# Altium footprint library PCB - POWER INDUCTORS - TDK SPM3020-LR.PCBLIB: 1 footprints
Each footprint in its own frame and in the unit in brackets; x right, y up, seen from the top. Pads: shape width x height; smd on the part's side, far side on the other; paste and mask are expansions set on the pad; w line width, h text height; cw(c..) or ccw(c..) is an arc to the next point about the centre after c.
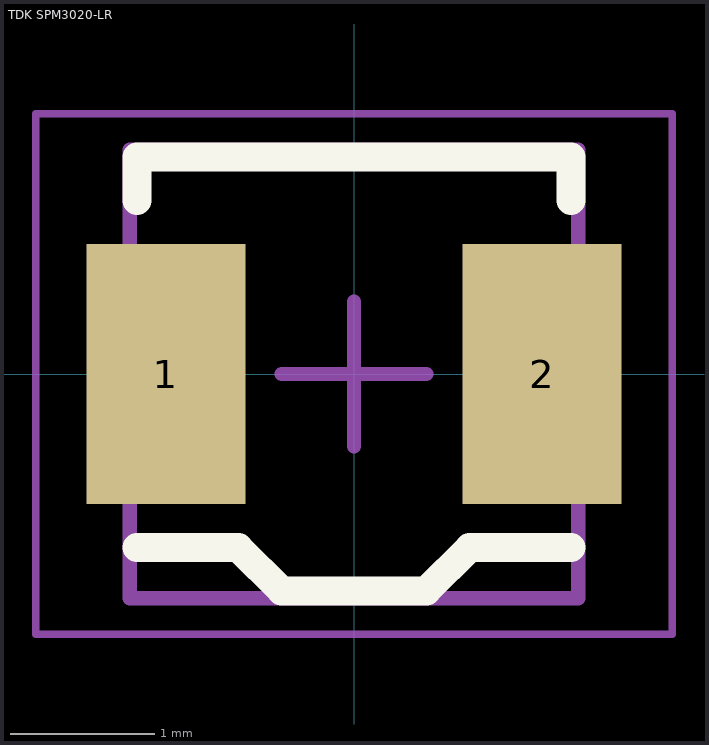
[diagram p0: the footprint, top view; thin cyan lines are the x and y axes]

## TDK SPM3020-LR [mm] "Inductor, 2-Leads, Body 3.00x3.00mm, IPC Medium Density"
height 2
pads (2):
  rect 1.1x1.8 smd: 1(-1.3,0) 2(1.3,0)
Top Overlay:
  lines w0.2: -1.5,-1.2 -0.8,-1.2 -0.5,-1.5 0,-1.5 0.5,-1.5 0.8,-1.2 1.5,-1.2 ; -1.5,1.2 -1.5,1.5 1.5,1.5 1.5,1.2
Mechanical 13:
  lines w0.1: -1.55,-1.55 1.55,-1.55 1.55,1.55 -1.55,1.55 -1.55,-1.55
Mechanical 15:
  lines w0.05: -2.2,-1.8 2.2,-1.8 2.2,1.8 -2.2,1.8 -2.2,-1.8
  lines w0.1: -0.5,0 0.5,0 ; 0,-0.5 0,0.5
3D body "SPM3020.STEP": height 2, standoff 0, extent -1.6,-1.5 1.6,1.5